# Altium schematic symbol library cml-modem.SchLib: 1 symbol
Pins are listed as number, name and electrical type; pins without a type are passive.

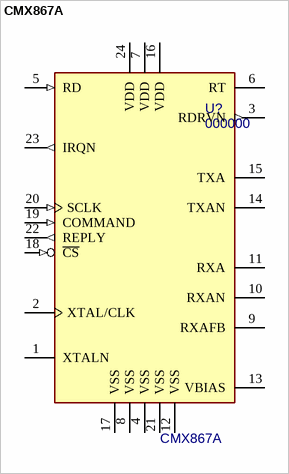
[diagram p0: symbol CMX867A]

## CMX867A
designator U?, comment 000000  value CMX867A
V.22 Modem; MF: CML; PN: 000000; Package: 24-TSSOP; ExtraInfo: *
footprint TSSOP-24 (TSOP, 24-Leads, Body 7.9x4.5mm (max), Pitch 0.65mm, IPC Medium Density)
pins: 1 XTALN, 2 XTAL/CLK, 3 RDRVN (out), 4 VSS (power), 5 RD (in), 6 RT, 7 VDD (power), 8 VSS (power), 9 RXAFB, 10 RXAN, 11 RXA, 12 VSS (power), 13 VBIAS (power), 14 TXAN, 15 TXA, 16 VDD (power), 17 VSS (power), 18 ~{CS} (in), 19 COMMAND (in), 20 SCLK (in), 21 VSS (power), 22 REPLY (out), 23 IRQN (out), 24 VDD (power)